# Altium integrated library T800.IntLib: 2 symbols
Pins are listed as number, name and electrical type; pins without a type are passive.

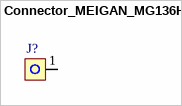
[diagram p0: symbol Connector_MEIGAN_MG136HT]

## Connector_MEIGAN_MG136HT
designator J?, comment MG_136_HT  (value not drawn)
footprint Conn_MEIGAN_MG136HT
pins: 1 17


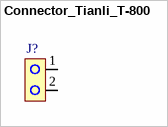
[diagram p1: symbol Connector_Tianli_T-800]

## Connector_Tianli_T-800
designator J?, comment TL-800  (value not drawn)
footprint Conn_Tianli_T-800
pins: 1 17, 2